# EAGLE library part TEENSY-4.0-FULL-BRAKE-PADS (library Teensy-4.0)
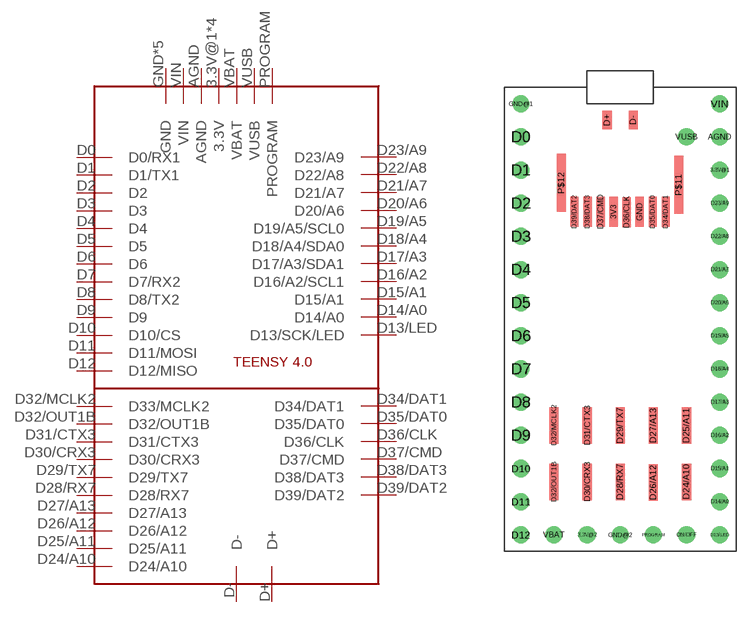
[diagram p0: symbol with the pads of TEENSY-4.0-FULL-BRAKE-PADS; footprint TEENSY-4.0-FULL-BRAKE-PADS]

Designator prefix -

## TEENSY-4.0-FULL-BRAKE-PADS  [TEENSY-4.0-FULL-BRAKE-PADS]
3.3V@1  3.3V
3.3V@2  3.3V
3V3  3.3V
AGND  AGND
D0  D0/RX1
D1  D1/TX1
D2  D2
D3  D3
D4  D4
D5  D5
D6  D6
D7  D7/RX2
D8  D8/TX2
D9  D9
D10  D10/CS
D11  D11/MOSI
D12  D12/MISO
D13/LED  D13/SCK/LED
D14/A0  D14/A0
D15/A1  D15/A1
D16/A2  D16/A2/SCL1
D17/A3  D17/A3/SDA1
D18/A4  D18/A4/SDA0
D19/A5  D19/A5/SCL0
D20/A6  D20/A6
D21/A7  D21/A7
D22/A8  D22/A8
D23/A9  D23/A9
D24/A10  D24/A10
D25/A11  D25/A11
D26/A12  D26/A12
D27/A13  D27/A13
D28/RX7  D28/RX7
D29/TX7  D29/TX7
D30/CRX3  D30/CRX3
D31/CTX3  D31/CTX3
D32/MCLK2  D33/MCLK2
D32/OUT1B  D32/OUT1B
D34/DAT1  D34/DAT1
D35/DAT0  D35/DAT0
D36/CLK  D36/CLK
D37/CMD  D37/CMD
D38/DAT3  D38/DAT3
D39/DAT2  D39/DAT2
D+  D+
D-  D-
GND  GND
GND@1  GND
GND@2  GND
ON/OFF  3.3V
P$11  GND
P$12  GND
PROGRAM  PROGRAM
VBAT  VBAT
VIN  VIN
VUSB  VUSB

## Footprint TEENSY-4.0-FULL-BRAKE-PADS (pad centres in mm)
drill 0.8: 3.3V@1 7.62,10.16; 3.3V@2 -2.54,-17.78; AGND 7.62,12.7; D0 -7.62,12.7; D1 -7.62,10.16; D2 -7.62,7.62; D3 -7.62,5.08; D4 -7.62,2.54; D5 -7.62,0; D6 -7.62,-2.54; D7 -7.62,-5.08; D8 -7.62,-7.62; D9 -7.62,-10.16; D10 -7.62,-12.7; D11 -7.62,-15.24; D12 -7.62,-17.78; D13/LED 7.62,-17.78; D14/A0 7.62,-15.24; D15/A1 7.62,-12.7; D16/A2 7.62,-10.16; D17/A3 7.62,-7.62; D18/A4 7.62,-5.08; D19/A5 7.62,-2.54; D20/A6 7.62,0; D21/A7 7.62,2.54; D22/A8 7.62,5.08; D23/A9 7.62,7.62; GND@1 -7.62,15.24; GND@2 0,-17.78; ON/OFF 5.08,-17.78; PROGRAM 2.54,-17.78; VBAT -5.08,-17.78; VIN 7.62,15.24; VUSB 5.08,12.7
smd 0.635 x 2.286: 3V3 -0.508,6.965; D34/DAT1 3.492,6.965; D35/DAT0 2.492,6.965; D36/CLK 0.492,6.935; D37/CMD -1.508,6.965; D38/DAT3 -2.508,6.965; D39/DAT2 -3.508,6.965; GND 1.492,6.965
smd 0.711 x 2.794: D24/A10 5.08,-13.716; D25/A11 5.08,-9.398; D26/A12 2.54,-13.767; D27/A13 2.54,-9.398; D28/RX7 0,-13.716; D29/TX7 0,-9.398; D30/CRX3 -2.54,-13.716; D31/CTX3 -2.54,-9.398; D32/MCLK2 -5.08,-9.398; D32/OUT1B -5.08,-13.716
smd 0.711 x 1.422: D+ -1,14; D- 1,14
smd 0.711 x 4.445: P$11 4.492,9.036; P$12 -4.508,9.176